# EAGLE library part AR9331- (library TL-WR703N)
Atheros AR9331 SoC Copyright © 2012, Michel Stempin, All rights reserved Licenced under Creative Commons CC BY-SA 3.0 <http://creativecommons.org/licenses/by-sa/3.0/deed.en> license.
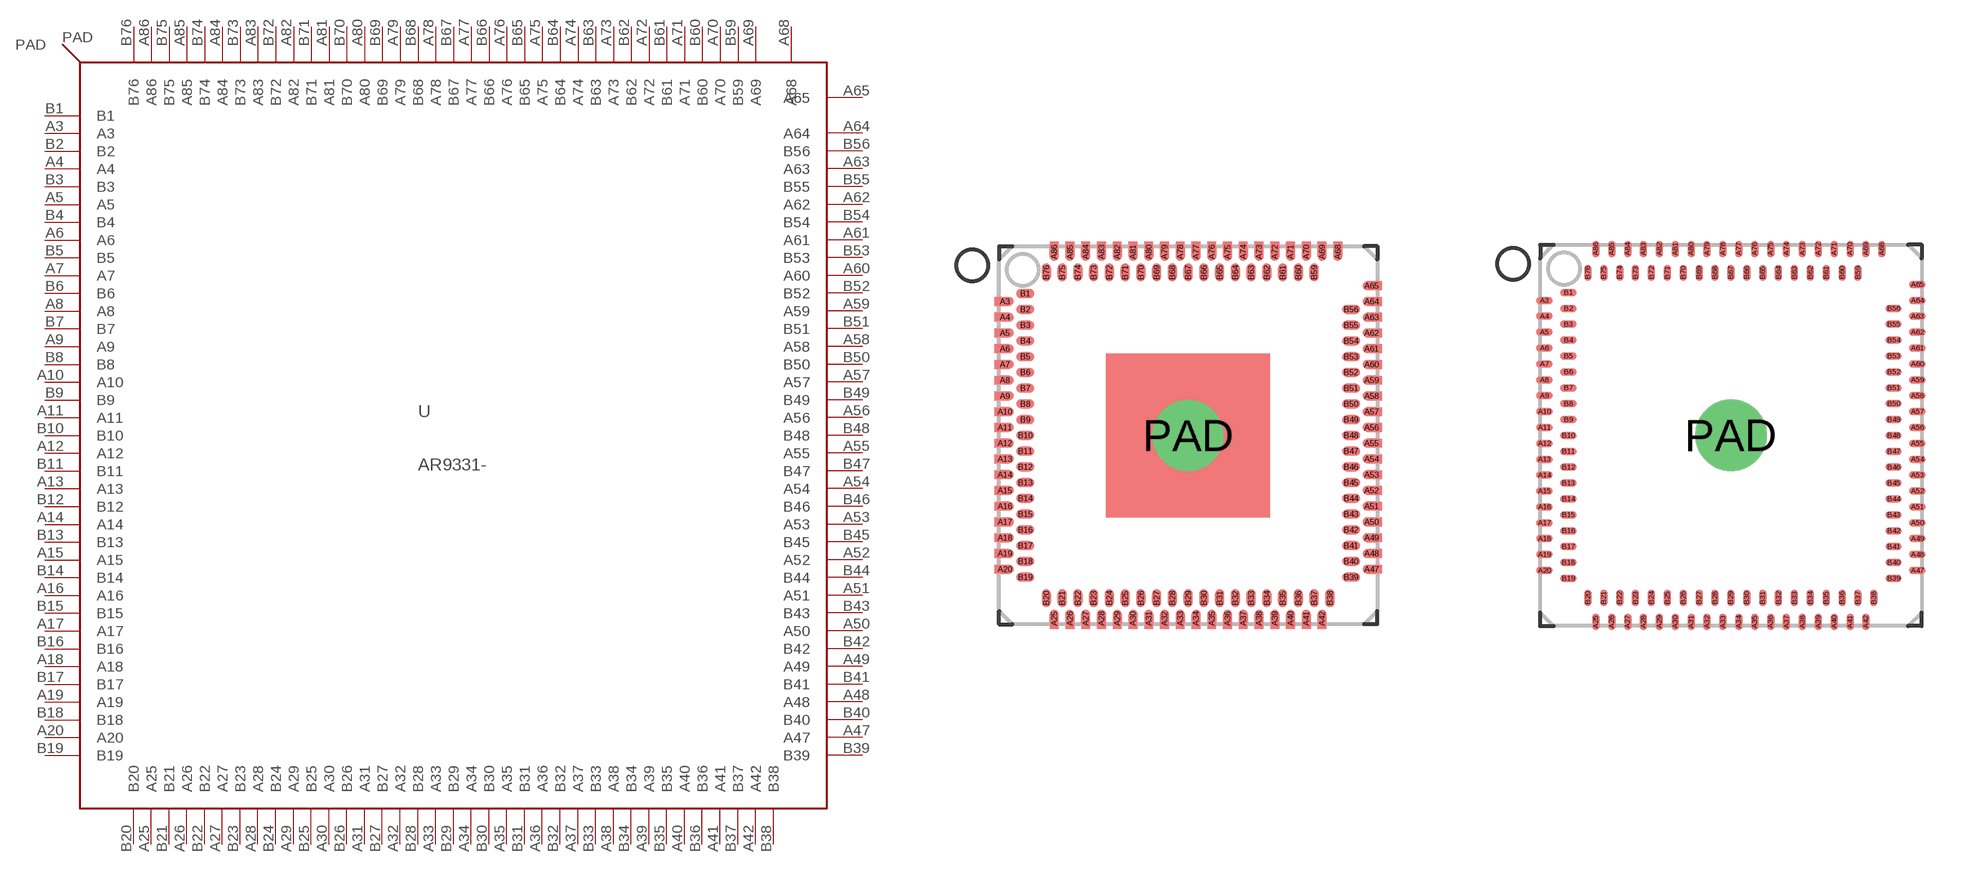
[diagram p0: symbol with the pads of AR9331-DRMLF164; footprints AR9331-DRMLF164, DRMLF164]

Designator prefix U

## AR9331-  [AR9331-DRMLF164]
A3  A3
A4  A4
A5  A5
A6  A6
A7  A7
A8  A8
A9  A9
A10  A10
A11  A11
A12  A12
A13  A13
A14  A14
A15  A15
A16  A16
A17  A17
A18  A18
A19  A19
A20  A20
A25  A25
A26  A26
A27  A27
A28  A28
A29  A29
A30  A30
A31  A31
A32  A32
A33  A33
A34  A34
A35  A35
A36  A36
A37  A37
A38  A38
A39  A39
A40  A40
A41  A41
A42  A42
A47  A47
A48  A48
A49  A49
A50  A50
A51  A51
A52  A52
A53  A53
A54  A54
A55  A55
A56  A56
A57  A57
A58  A58
A59  A59
A60  A60
A61  A61
A62  A62
A63  A63
A64  A64
A65  A65
A68  A68
A69  A69
A70  A70
A71  A71
A72  A72
A73  A73
A74  A74
A75  A75
A76  A76
A77  A77
A78  A78
A79  A79
A80  A80
A81  A81
A82  A82
A83  A83
A84  A84
A85  A85
A86  A86
B1  B1
B2  B2
B3  B3
B4  B4
B5  B5
B6  B6
B7  B7
B8  B8
B9  B9
B10  B10
B11  B11
B12  B12
B13  B13
B14  B14
B15  B15
B16  B16
B17  B17
B18  B18
B19  B19
B20  B20
B21  B21
B22  B22
B23  B23
B24  B24
B25  B25
B26  B26
B27  B27
B28  B28
B29  B29
B30  B30
B31  B31
B32  B32
B33  B33
B34  B34
B35  B35
B36  B36
B37  B37
B38  B38
B39  B39
B40  B40
B41  B41
B42  B42
B43  B43
B44  B44
B45  B45
B46  B46
B47  B47
B48  B48
B49  B49
B50  B50
B51  B51
B52  B52
B53  B53
B54  B54
B55  B55
B56  B56
B59  B59
B60  B60
B61  B61
B62  B62
B63  B63
B64  B64
B65  B65
B66  B66
B67  B67
B68  B68
B69  B69
B70  B70
B71  B71
B72  B72
B73  B73
B74  B74
B75  B75
B76  B76
PAD  PAD

## AR9331-AL1A  [DRMLF164]
Pads as for AR9331-DRMLF164

## Footprint AR9331-DRMLF164 (pad centres in mm)
Atheros AR9331-AL1A SoC Dual-Row MLF Package Based on: A-DualRowMLF164-1.dwg.pdf <http://www.practicalcomponents.com/drawings/pdf/DualRowMLF/A-DualRowMLF164-1dwg.pdf> A-DualRowMLF164-2.dwg.pdf <http://www.practicalcomponents.com/drawings/pdf/DualRowMLF/A-DualRowMLF164-2dwg.pdf> PDRMLFAppNoteAug05RevA.pdf <http://www.amkor.com/download.cfm?downloadfile=E1A382DF-DE6E-0406-67A2C29846561710&typename=dmFile&fieldname=filename> All these documents are from Amkor. Copyright © 2012, Michel Stempin, All rights reserved Licenced under Creative Commons CC BY-SA 3.0 <http://creativecommons.org/licenses/by-sa/3.0/deed.en> license.
smd 0.56 x 0.28: A3 -5.819,4.25; A4 -5.819,3.75; A5 -5.819,3.25; A6 -5.819,2.75; A7 -5.819,2.25; A8 -5.819,1.75; A9 -5.819,1.25; A10 -5.819,0.75; A11 -5.819,0.25; A12 -5.819,-0.25; A13 -5.819,-0.75; A14 -5.819,-1.25; A15 -5.819,-1.75; A16 -5.819,-2.25; A17 -5.819,-2.75; A18 -5.819,-3.25; A19 -5.819,-3.75; A20 -5.819,-4.25; A47 5.819,-4.25; A48 5.819,-3.75; A49 5.819,-3.25; A50 5.819,-2.75; A51 5.819,-2.25; A52 5.819,-1.75; A53 5.819,-1.25; A54 5.819,-0.75; A55 5.819,-0.25; A56 5.819,0.25; A57 5.819,0.75; A58 5.819,1.25; A59 5.819,1.75; A60 5.819,2.25; A61 5.819,2.75; A62 5.819,3.25; A63 5.819,3.75; A64 5.819,4.25; A65 5.819,4.75; B1 -5.169,4.5; B2 -5.169,4; B3 -5.169,3.5; B4 -5.169,3; B5 -5.169,2.5; B6 -5.169,2; B7 -5.169,1.5; B8 -5.169,1; B9 -5.169,0.5; B10 -5.169,0; B11 -5.169,-0.5; B12 -5.169,-1; B13 -5.169,-1.5; B14 -5.169,-2; B15 -5.169,-2.5; B16 -5.169,-3; B17 -5.169,-3.5; B18 -5.169,-4; B19 -5.169,-4.5; B39 5.169,-4.5; B40 5.169,-4; B41 5.169,-3.5; B42 5.169,-3; B43 5.169,-2.5; B44 5.169,-2; B45 5.169,-1.5; B46 5.169,-1; B47 5.169,-0.5; B48 5.169,0; B49 5.169,0.5; B50 5.169,1; B51 5.169,1.5; B52 5.169,2; B53 5.169,2.5; B54 5.169,3; B55 5.169,3.5; B56 5.169,4
smd 0.28 x 0.56: A25 -4.25,-5.819; A26 -3.75,-5.819; A27 -3.25,-5.819; A28 -2.75,-5.819; A29 -2.25,-5.819; A30 -1.75,-5.819; A31 -1.25,-5.819; A32 -0.75,-5.819; A33 -0.25,-5.819; A34 0.25,-5.819; A35 0.75,-5.819; A36 1.25,-5.819; A37 1.75,-5.819; A38 2.25,-5.819; A39 2.75,-5.819; A40 3.25,-5.819; A41 3.75,-5.819; A42 4.25,-5.819; A68 4.75,5.819; A69 4.25,5.819; A70 3.75,5.819; A71 3.25,5.819; A72 2.75,5.819; A73 2.25,5.819; A74 1.75,5.819; A75 1.25,5.819; A76 0.75,5.819; A77 0.25,5.819; A78 -0.25,5.819; A79 -0.75,5.819; A80 -1.25,5.819; A81 -1.75,5.819; A82 -2.25,5.819; A83 -2.75,5.819; A84 -3.25,5.819; A85 -3.75,5.819; A86 -4.25,5.819; B20 -4.5,-5.169; B21 -4,-5.169; B22 -3.5,-5.169; B23 -3,-5.169; B24 -2.5,-5.169; B25 -2,-5.169; B26 -1.5,-5.169; B27 -1,-5.169; B28 -0.5,-5.169; B29 0,-5.169; B30 0.5,-5.169; B31 1,-5.169; B32 1.5,-5.169; B33 2,-5.169; B34 2.5,-5.169; B35 3,-5.169; B36 3.5,-5.169; B37 4,-5.169; B38 4.5,-5.169; B59 4,5.169; B60 3.5,5.169; B61 3,5.169; B62 2.5,5.169; B63 2,5.169; B64 1.5,5.169; B65 1,5.169; B66 0.5,5.169; B67 0,5.169; B68 -0.5,5.169; B69 -1,5.169; B70 -1.5,5.169; B71 -2,5.169; B72 -2.5,5.169; B73 -3,5.169; B74 -3.5,5.169; B75 -4,5.169; B76 -4.5,5.169
drill 1.5: PAD 0,0

## Footprint DRMLF164 (pad centres in mm)
Dual-Row MLF 164-pin Package Based on: A-DualRowMLF164-1.dwg.pdf <http://www.practicalcomponents.com/drawings/pdf/DualRowMLF/A-DualRowMLF164-1dwg.pdf> A-DualRowMLF164-2.dwg.pdf <http://www.practicalcomponents.com/drawings/pdf/DualRowMLF/A-DualRowMLF164-2dwg.pdf> PDRMLFAppNoteAug05RevA.pdf <http://www.amkor.com/download.cfm?downloadfile=E1A382DF-DE6E-0406-67A2C29846561710&typename=dmFile&fieldname=filename> All these documents are from Amkor. Copyright © 2012, Michel Stempin, All rights reserved Licenced under Creative Commons CC BY-SA 3.0 <http://creativecommons.org/licenses/by-sa/3.0/deed.en> license.
smd 0.52 x 0.24: A3 -5.869,4.25; A4 -5.869,3.75; A5 -5.869,3.25; A6 -5.869,2.75; A7 -5.869,2.25; A8 -5.869,1.75; A9 -5.869,1.25; A10 -5.869,0.75; A11 -5.869,0.25; A12 -5.869,-0.25; A13 -5.869,-0.75; A14 -5.869,-1.25; A15 -5.869,-1.75; A16 -5.869,-2.25; A17 -5.869,-2.75; A18 -5.869,-3.25; A19 -5.869,-3.75; A20 -5.869,-4.25; A47 5.869,-4.25; A48 5.869,-3.75; A49 5.869,-3.25; A50 5.869,-2.75; A51 5.869,-2.25; A52 5.869,-1.75; A53 5.869,-1.25; A54 5.869,-0.75; A55 5.869,-0.25; A56 5.869,0.25; A57 5.869,0.75; A58 5.869,1.25; A59 5.869,1.75; A60 5.869,2.25; A61 5.869,2.75; A62 5.869,3.25; A63 5.869,3.75; A64 5.869,4.25; A65 5.869,4.75; B1 -5.119,4.5; B2 -5.119,4; B3 -5.119,3.5; B4 -5.119,3; B5 -5.119,2.5; B6 -5.119,2; B7 -5.119,1.5; B8 -5.119,1; B9 -5.119,0.5; B10 -5.119,0; B11 -5.119,-0.5; B12 -5.119,-1; B13 -5.119,-1.5; B14 -5.119,-2; B15 -5.119,-2.5; B16 -5.119,-3; B17 -5.119,-3.5; B18 -5.119,-4; B19 -5.119,-4.5; B39 5.119,-4.5; B40 5.119,-4; B41 5.119,-3.5; B42 5.119,-3; B43 5.119,-2.5; B44 5.119,-2; B45 5.119,-1.5; B46 5.119,-1; B47 5.119,-0.5; B48 5.119,0; B49 5.119,0.5; B50 5.119,1; B51 5.119,1.5; B52 5.119,2; B53 5.119,2.5; B54 5.119,3; B55 5.119,3.5; B56 5.119,4
smd 0.24 x 0.52: A25 -4.25,-5.869; A26 -3.75,-5.869; A27 -3.25,-5.869; A28 -2.75,-5.869; A29 -2.25,-5.869; A30 -1.75,-5.869; A31 -1.25,-5.869; A32 -0.75,-5.869; A33 -0.25,-5.869; A34 0.25,-5.869; A35 0.75,-5.869; A36 1.25,-5.869; A37 1.75,-5.869; A38 2.25,-5.869; A39 2.75,-5.869; A40 3.25,-5.869; A41 3.75,-5.869; A42 4.25,-5.869; A68 4.75,5.869; A69 4.25,5.869; A70 3.75,5.869; A71 3.25,5.869; A72 2.75,5.869; A73 2.25,5.869; A74 1.75,5.869; A75 1.25,5.869; A76 0.75,5.869; A77 0.25,5.869; A78 -0.25,5.869; A79 -0.75,5.869; A80 -1.25,5.869; A81 -1.75,5.869; A82 -2.25,5.869; A83 -2.75,5.869; A84 -3.25,5.869; A85 -3.75,5.869; A86 -4.25,5.869; B20 -4.5,-5.119; B21 -4,-5.119; B22 -3.5,-5.119; B23 -3,-5.119; B24 -2.5,-5.119; B25 -2,-5.119; B26 -1.5,-5.119; B27 -1,-5.119; B28 -0.5,-5.119; B29 0,-5.119; B30 0.5,-5.119; B31 1,-5.119; B32 1.5,-5.119; B33 2,-5.119; B34 2.5,-5.119; B35 3,-5.119; B36 3.5,-5.119; B37 4,-5.119; B38 4.5,-5.119; B59 4,5.119; B60 3.5,5.119; B61 3,5.119; B62 2.5,5.119; B63 2,5.119; B64 1.5,5.119; B65 1,5.119; B66 0.5,5.119; B67 0,5.119; B68 -0.5,5.119; B69 -1,5.119; B70 -1.5,5.119; B71 -2,5.119; B72 -2.5,5.119; B73 -3,5.119; B74 -3.5,5.119; B75 -4,5.119; B76 -4.5,5.119
drill 1.5: PAD 0,0